# Altium integrated library LT5534ESC6TR.IntLib: 1 symbol
Pins are listed as number, name and electrical type; pins without a type are passive.

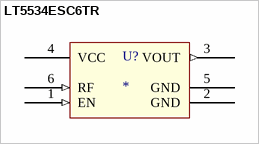
[diagram p0: symbol LT5534ESC6TR]

## LT5534ESC6TR
designator U?
MP: LT5534ESC6TR; Package: None; Price: None; Value: *; Availability: Unavailable
footprint SOT-6_SC
pins: 1 EN (in), 2 GND (power), 3 VOUT (out), 4 VCC (power), 5 GND (power), 6 RF (in)